# Altium footprint library VL53L0CXV0DH1.PcbLib: 3 footprints
Each footprint in its own frame and in the unit in brackets; x right, y up, seen from the top. Pads: shape width x height; smd on the part's side, far side on the other; paste and mask are expansions set on the pad; w line width, h text height; cw(c..) or ccw(c..) is an arc to the next point about the centre after c.
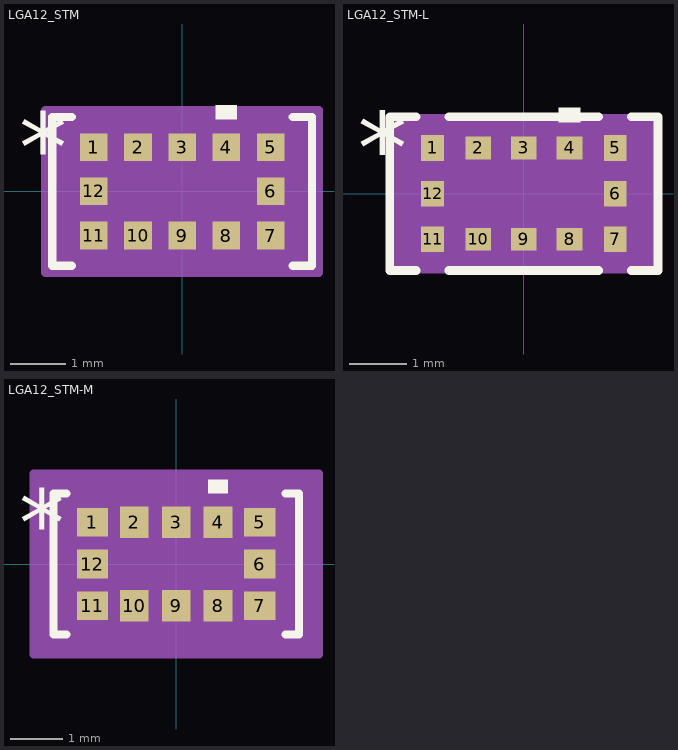
[diagram p0: the footprints below, top view; thin cyan lines are the x and y axes]

## LGA12_STM [mm]
pads (12):
  rect 0.5x0.5 smd paste+0 mask+0: 1(-1.6,0.8) 2(-0.8,0.8) 3(0,0.8) 4(0.8,0.8) 5(1.6,0.8) 6(1.6,0) 7(1.6,-0.8) 8(0.8,-0.8) 9(0,-0.8) 10(-0.8,-0.8) 11(-1.6,-0.8) 12(-1.6,0)
Top Overlay:
  region: 0.991,1.304 0.61,1.304 0.61,1.558 0.991,1.558
  lines w0.152: -2.002,-1.346 -2.349,-1.346 -2.349,1.346 -2.002,1.346 ; 2.002,-1.346 2.349,-1.346 2.349,1.346 2.002,1.346
  text "*" at -2.955,0.165 h1.27
Mechanical 13:
  lines w0.025: -2.222,-0.051 -0.953,1.219 ; -2.222,-1.219 -2.222,1.219 2.222,1.219 2.222,-1.219 -2.222,-1.219 ; -2.222,-1.05 -1.85,-1.05 -1.85,-0.55 -2.222,-0.55 -2.222,-1.05 ; -2.222,-0.25 -1.85,-0.25 -1.85,0.25 -2.222,0.25 -2.222,-0.25 ; -2.222,0.55 -1.85,0.55 -1.85,1.05 -2.222,1.05 -2.222,0.55 ; -1.05,-1.219 -1.05,-1.05 -0.55,-1.05 -0.55,-1.219 -1.05,-1.219 ; -1.05,1.05 -1.05,1.219 -0.55,1.219 -0.55,1.05 -1.05,1.05 ; -0.25,-1.219 -0.25,-1.05 0.25,-1.05 0.25,-1.219 -0.25,-1.219 ; -0.25,1.05 -0.25,1.219 0.25,1.219 0.25,1.05 -0.25,1.05 ; 0.55,-1.219 0.55,-1.05 1.05,-1.05 1.05,-1.219 0.55,-1.219 ; 0.55,1.05 0.55,1.219 1.05,1.219 1.05,1.05 0.55,1.05 ; 1.85,-1.05 1.85,-0.55 2.222,-0.55 2.222,-1.05 1.85,-1.05 ; 1.85,-0.25 1.85,0.25 2.222,0.25 2.222,-0.25 1.85,-0.25 ; 1.85,0.55 1.85,1.05 2.222,1.05 2.222,0.55 1.85,0.55
  text "*" at -0.88,0.165 h1.27
Mechanical 15:
  region: -1.304,-1.473 -2.476,-1.473 -2.476,-1.304 -2.476,1.304 -2.476,1.473 -1.304,1.473 1.304,1.473 2.476,1.473 2.476,1.304 2.476,-1.304 2.476,-1.473 1.304,-1.473
  lines w0.152: -2.476,-1.473 -1.304,-1.473 1.304,-1.473 2.476,-1.473 2.476,-1.304 2.476,1.304 2.476,1.473 1.304,1.473 -1.304,1.473 -2.476,1.473 -2.476,1.304 -2.476,-1.304 -2.476,-1.473
3D body "LGA12_STM.step": height 1.04, standoff 0, extent -2.222,-1.219 2.222,1.219

## LGA12_STM-L [mm]
pads (12):
  rect 0.4x0.45 smd paste+0 mask+0: 1(-1.6,0.8) 5(1.6,0.8) 6(1.6,0) 7(1.6,-0.8) 11(-1.6,-0.8) 12(-1.6,0)
  rect 0.45x0.4 smd paste+0 mask+0: 2(-0.8,0.8) 3(0,0.8) 4(0.8,0.8) 8(0.8,-0.8) 9(0,-0.8) 10(-0.8,-0.8)
Top Overlay:
  region: 0.991,1.254 0.61,1.254 0.61,1.508 0.991,1.508
  lines w0.152: -1.887,-1.346 -2.349,-1.346 -2.349,1.346 -1.887,1.346 ; -1.313,-1.346 1.313,-1.346 ; -1.313,1.346 1.313,1.346 ; 1.887,-1.346 2.349,-1.346 2.349,1.346 1.887,1.346
  text "*" at -2.905,0.165 h1.27
  text ".Designator" at -3.492,-0.635 h1.27
Mechanical 13:
  lines w0.025: -2.222,-0.051 -0.953,1.219 ; -2.222,-1.219 2.222,-1.219 2.222,1.219 -2.222,1.219 -2.222,-1.219 ; -2.222,-1.05 -2.222,-0.55 -1.85,-0.55 -1.85,-1.05 -2.222,-1.05 ; -2.222,-0.25 -2.222,0.25 -1.85,0.25 -1.85,-0.25 -2.222,-0.25 ; -2.222,0.55 -2.222,1.05 -1.85,1.05 -1.85,0.55 -2.222,0.55 ; -1.05,-1.219 -0.55,-1.219 -0.55,-1.05 -1.05,-1.05 -1.05,-1.219 ; -1.05,1.05 -0.55,1.05 -0.55,1.219 -1.05,1.219 -1.05,1.05 ; -0.25,-1.219 0.25,-1.219 0.25,-1.05 -0.25,-1.05 -0.25,-1.219 ; -0.25,1.05 0.25,1.05 0.25,1.219 -0.25,1.219 -0.25,1.05 ; 0.55,-1.219 1.05,-1.219 1.05,-1.05 0.55,-1.05 0.55,-1.219 ; 0.55,1.05 1.05,1.05 1.05,1.219 0.55,1.219 0.55,1.05 ; 1.85,-1.05 2.222,-1.05 2.222,-0.55 1.85,-0.55 1.85,-1.05 ; 1.85,-0.25 2.222,-0.25 2.222,0.25 1.85,0.25 1.85,-0.25 ; 1.85,0.55 2.222,0.55 2.222,1.05 1.85,1.05 1.85,0.55
  text ".Designator" at -3.492,-0.635 h1.27
  text "*" at -0.93,0.165 h1.27
Mechanical 15:
  region: -1.127,-1.321 -2.324,-1.321 -2.324,-1.127 -2.324,1.127 -2.324,1.321 -1.127,1.321 1.127,1.321 2.324,1.321 2.324,1.127 2.324,-1.127 2.324,-1.321 1.127,-1.321
  lines w0.152: -2.324,-1.127 -2.324,-1.321 -1.127,-1.321 ; -2.324,-1.127 -2.324,-1.127 ; -2.324,-1.127 -2.324,1.127 ; -2.324,1.127 -2.324,1.127 ; -2.324,1.127 -2.324,1.321 -1.127,1.321 ; -1.127,-1.321 1.127,-1.321 ; -1.127,-1.321 -1.127,-1.321 ; -1.127,1.321 -1.127,1.321 ; -1.127,1.321 1.127,1.321 ; 1.127,-1.321 2.324,-1.321 2.324,-1.127 ; 1.127,-1.321 1.127,-1.321 ; 1.127,1.321 1.127,1.321 ; 1.127,1.321 2.324,1.321 2.324,1.127 ; 2.324,-1.127 2.324,1.127 ; 2.324,-1.127 2.324,-1.127 ; 2.324,1.127 2.324,1.127
3D body "LGA12_STM.step": height 1.04, standoff 0, extent -2.222,-1.219 2.222,1.219

## LGA12_STM-M [mm]
pads (12):
  rect 0.6x0.55 smd paste+0 mask+0: 1(-1.6,0.8) 5(1.6,0.8) 6(1.6,0) 7(1.6,-0.8) 11(-1.6,-0.8) 12(-1.6,0)
  rect 0.55x0.6 smd paste+0 mask+0: 2(-0.8,0.8) 3(0,0.8) 4(0.8,0.8) 8(0.8,-0.8) 9(0,-0.8) 10(-0.8,-0.8)
Top Overlay:
  region: 0.991,1.354 0.61,1.354 0.61,1.608 0.991,1.608
  lines w0.152: -2.093,-1.346 -2.349,-1.346 -2.349,1.346 -2.093,1.346 ; 2.093,-1.346 2.349,-1.346 2.349,1.346 2.093,1.346
  text "*" at -3.005,0.165 h1.27
  text ".Designator" at -3.492,-0.635 h1.27
Mechanical 13:
  lines w0.025: -2.222,-0.051 -0.953,1.219 ; -2.222,-1.219 2.222,-1.219 2.222,1.219 -2.222,1.219 -2.222,-1.219 ; -2.222,-1.05 -2.222,-0.55 -1.85,-0.55 -1.85,-1.05 -2.222,-1.05 ; -2.222,-0.25 -2.222,0.25 -1.85,0.25 -1.85,-0.25 -2.222,-0.25 ; -2.222,0.55 -2.222,1.05 -1.85,1.05 -1.85,0.55 -2.222,0.55 ; -1.05,-1.219 -0.55,-1.219 -0.55,-1.05 -1.05,-1.05 -1.05,-1.219 ; -1.05,1.05 -0.55,1.05 -0.55,1.219 -1.05,1.219 -1.05,1.05 ; -0.25,-1.219 0.25,-1.219 0.25,-1.05 -0.25,-1.05 -0.25,-1.219 ; -0.25,1.05 0.25,1.05 0.25,1.219 -0.25,1.219 -0.25,1.05 ; 0.55,-1.219 1.05,-1.219 1.05,-1.05 0.55,-1.05 0.55,-1.219 ; 0.55,1.05 1.05,1.05 1.05,1.219 0.55,1.219 0.55,1.05 ; 1.85,-1.05 2.222,-1.05 2.222,-0.55 1.85,-0.55 1.85,-1.05 ; 1.85,-0.25 2.222,-0.25 2.222,0.25 1.85,0.25 1.85,-0.25 ; 1.85,0.55 2.222,0.55 2.222,1.05 1.85,1.05 1.85,0.55
  text ".Designator" at -3.492,-0.635 h1.27
  text "*" at -0.83,0.165 h1.27
Mechanical 15:
  region: -1.583,-1.727 -2.73,-1.727 -2.73,-1.583 -2.73,1.583 -2.73,1.727 -1.583,1.727 1.583,1.727 2.73,1.727 2.73,1.583 2.73,-1.583 2.73,-1.727 1.583,-1.727
  lines w0.152: -2.73,-1.583 -2.73,-1.727 -1.583,-1.727 ; -2.73,-1.583 -2.73,-1.583 ; -2.73,-1.583 -2.73,1.583 ; -2.73,1.583 -2.73,1.583 ; -2.73,1.583 -2.73,1.727 -1.583,1.727 ; -1.583,-1.727 1.583,-1.727 ; -1.583,-1.727 -1.583,-1.727 ; -1.583,1.727 -1.583,1.727 ; -1.583,1.727 1.583,1.727 ; 1.583,-1.727 2.73,-1.727 2.73,-1.583 ; 1.583,-1.727 1.583,-1.727 ; 1.583,1.727 1.583,1.727 ; 1.583,1.727 2.73,1.727 2.73,1.583 ; 2.73,-1.583 2.73,1.583 ; 2.73,-1.583 2.73,-1.583 ; 2.73,1.583 2.73,1.583
3D body "LGA12_STM.step": height 1.04, standoff 0, extent -2.222,-1.219 2.222,1.219